# Altium footprint library DTF15-12P_Half_A.PcbLib: 1 footprints
Each footprint in its own frame and in the unit in brackets; x right, y up, seen from the top. Pads: shape width x height; smd on the part's side, far side on the other; paste and mask are expansions set on the pad; w line width, h text height; cw(c..) or ccw(c..) is an arc to the next point about the centre after c.
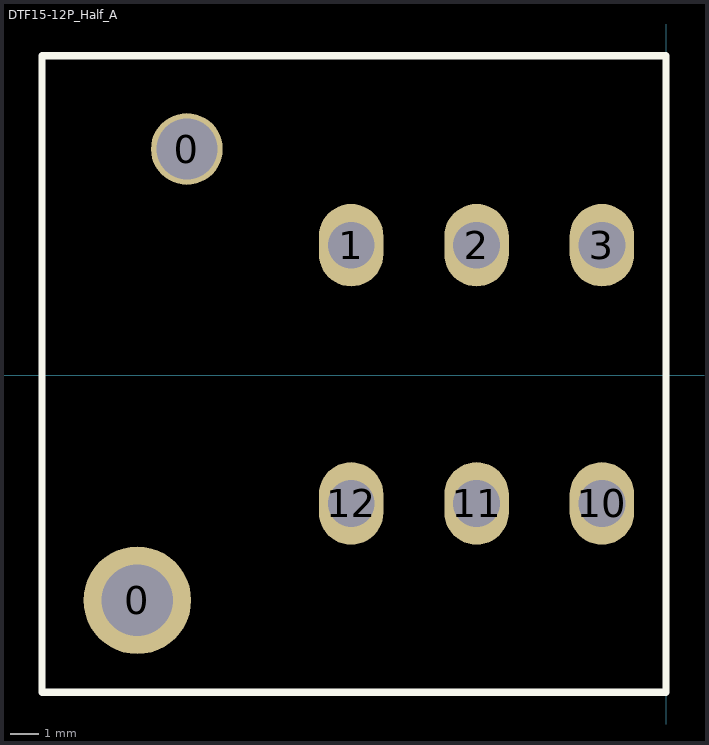
[diagram p0: the footprint, top view; thin cyan lines are the x and y axes]

## DTF15-12P_Half_A [mil]
pads (8):
  round 150 hole 100: 0(-737,-314)
  round 100 hole 85: 0(-668,315)
  oval 90x115 hole 65: 1(-439,181) 2(-264.2,181) 3(-89.4,181) 10(-89.4,-179) 11(-264.2,-179) 12(-439,-179)
Top Overlay:
  lines w10: -870,-442 -870,445 0,445 0,-442 -870,-442
3D body: height 182, standoff -1395, extent -868,-437 862,439